# EAGLE library part AMIS42770ICAW1RG (library Driver_Transceiver ICs)
IC TRANSCEIVER HALF 2/2 20SOIC Manufacturer's datasheet <https://www.onsemi.com/pub/Collateral/AMIS-42770-D.PDF>
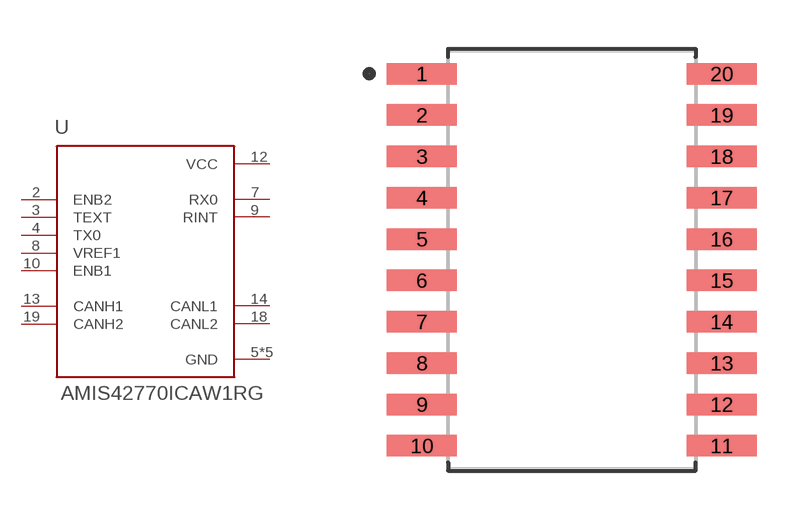
[diagram p10: symbol with the pads of SOIC-20; footprint SOIC-20]

Designator prefix U

## AMIS42770ICAW1RG (CREATED_BY: PCBLayout.com; DIGIKEY_PARTNO: 766-1010-2-ND; MANUFACTURER: ON Semiconductor; MPN: AMIS42770ICAW1RG; PACKAGE: SOIC-20)  [SOIC-20]
2  ENB2  in
3  TEXT  in
4  TX0  in
5  GND  pwr
6  GND  pwr
7  RX0  out
8  VREF1  in
9  RINT  out
10  ENB1  in
12  VCC  pwr
13  CANH1
14  CANL1
15  GND  pwr
16  GND  pwr
17  GND  pwr
18  CANL2
19  CANH2

## Footprint SOIC-20 (pad centres in mm)
Small Outline IC (SOIC), 0.050 in pitch; 20 pin, 0.503 in L X 0.2955 in W X 0.104 in H body PCB Libraries Packages
smd 2.144 x 0.66: 1 -4.602,5.715; 2 -4.602,4.445; 3 -4.602,3.175; 4 -4.602,1.905; 5 -4.602,0.635; 6 -4.602,-0.635; 7 -4.602,-1.905; 8 -4.602,-3.175; 9 -4.602,-4.445; 10 -4.602,-5.715; 11 4.602,-5.715; 12 4.602,-4.445; 13 4.602,-3.175; 14 4.602,-1.905; 15 4.602,-0.635; 16 4.602,0.635; 17 4.602,1.905; 18 4.602,3.175; 19 4.602,4.445; 20 4.602,5.715